# EAGLE library part MPU9250_BREAKOUT (library MPU9250_BREAKOUT)
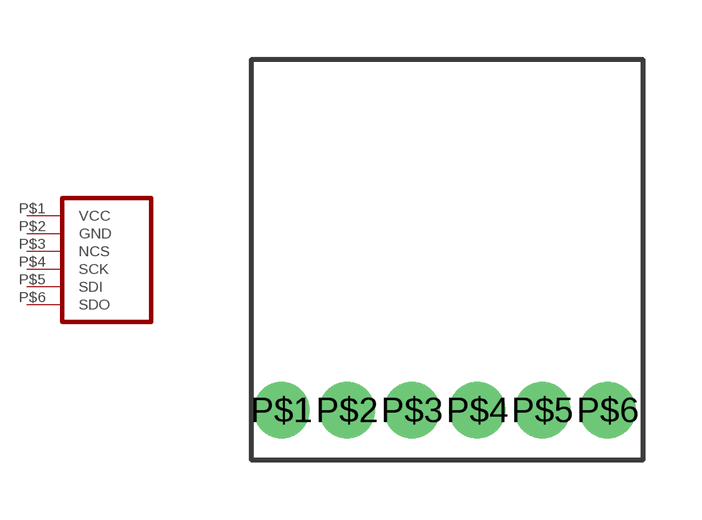
[diagram p0: symbol with the pads of MPU9250_BREAKOUT; footprint MPU9250_BREAKOUT]

Designator prefix -

## MPU9250_BREAKOUT  [MPU9250_BREAKOUT]
P$1  VCC
P$2  GND
P$3  NCS
P$4  SCK
P$5  SDI
P$6  SDO

## Footprint MPU9250_BREAKOUT (pad centres in mm)
drill 0.8 pad 1.422: P$1 0,0; P$2 1.651,0; P$3 3.302,0; P$4 4.953,0; P$5 6.604,0; P$6 8.255,0